# Altium integrated library Analog Devices Clock Generation and Distribution.IntLib: 120 symbols (part 4 of 18)
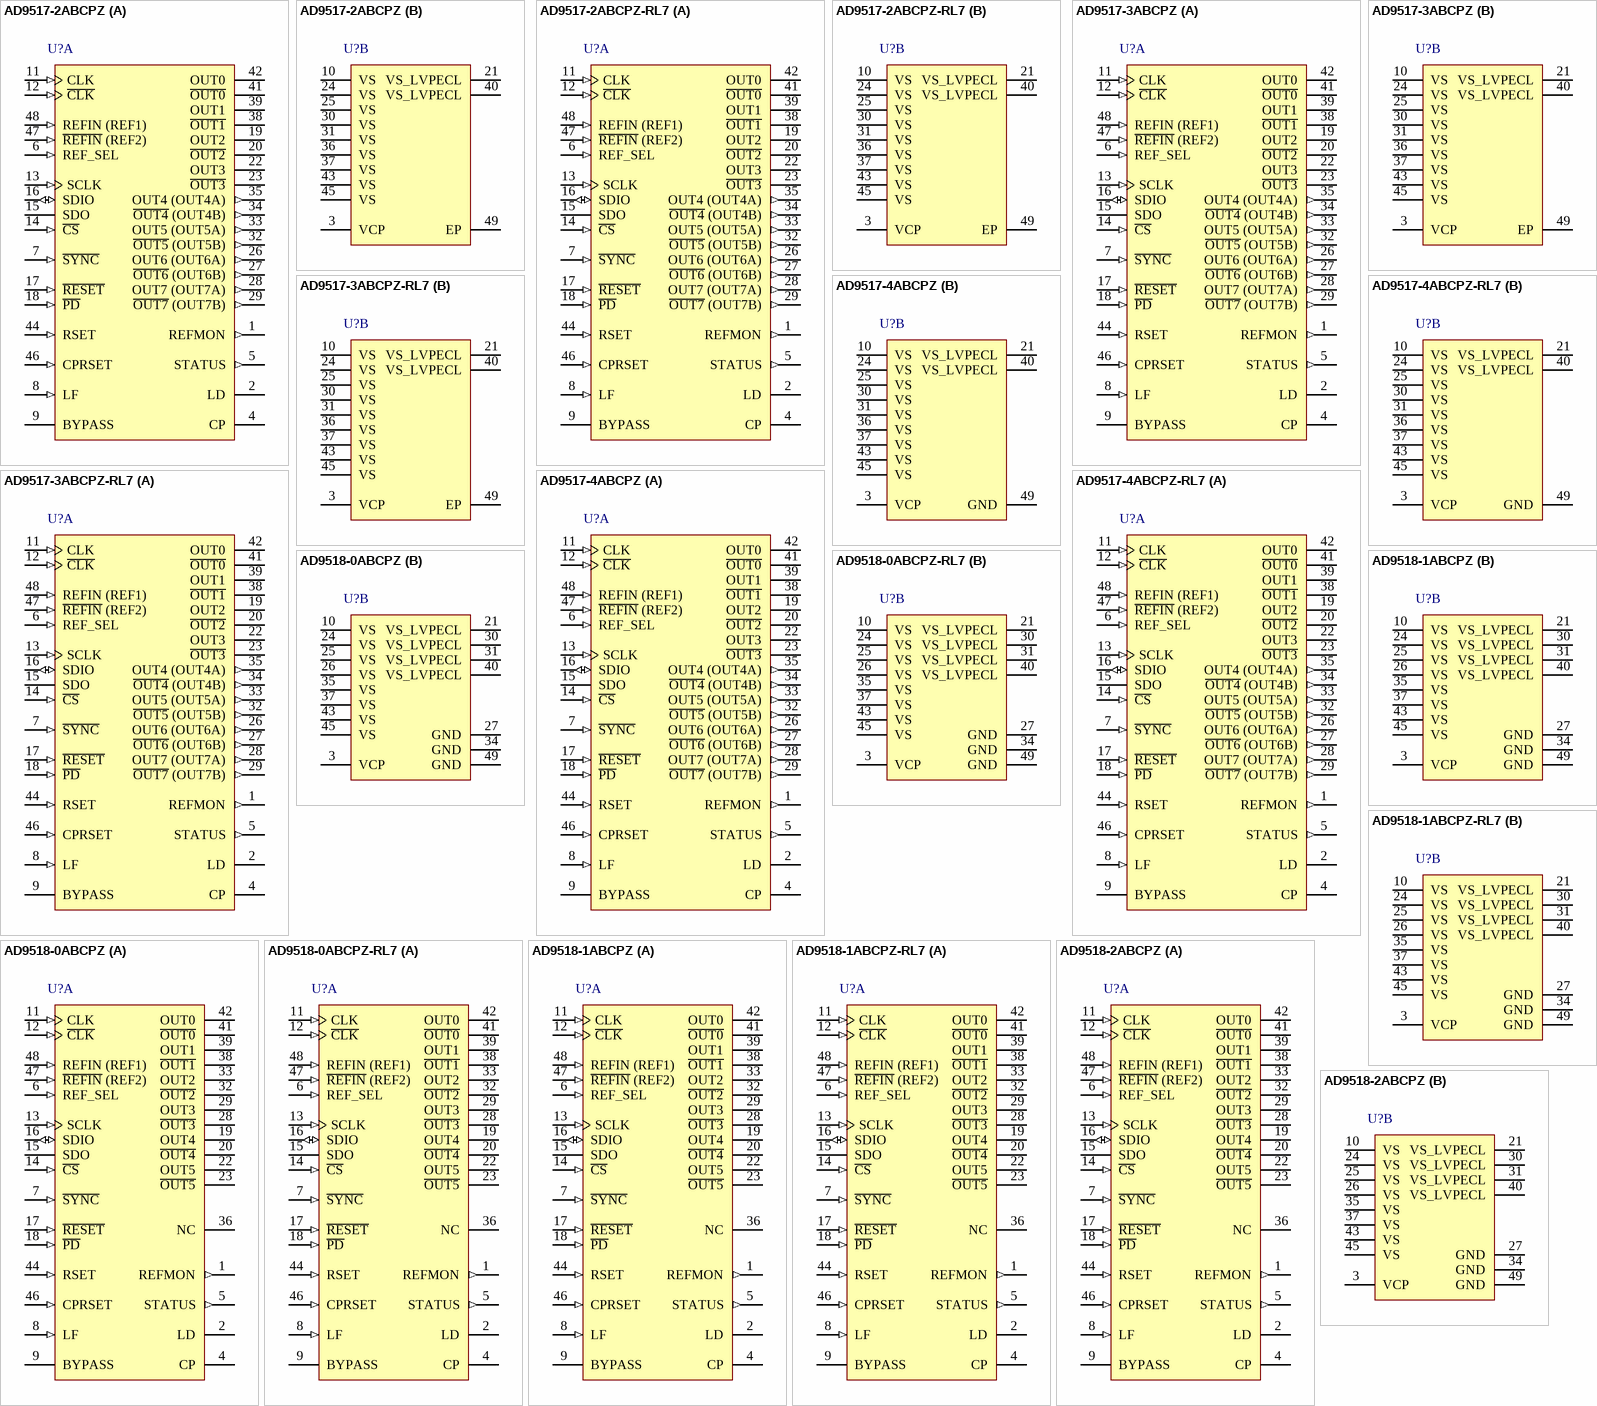
[diagram p15: symbols AD9517-2ABCPZ to AD9518-2ABCPZ]

## AD9517-3ABCPZ
designator U?
12 Outputs Clock Generator with Integrated 2.0 GHz VCO, 3.3 V Supply, Industrial, 48-pin QFN (CP-48-8), Tray; Manufacturer: Analog Devices; PartNumber: AD9517-3ABCPZ; # of Inputs: 2; # of Outputs: 12; Supply Voltage (V): 3.3; I/O Interface: Serial; Max f-out: 2.25 GHz; On-Chip VCO or DCO: Yes; Output Logic: CMOS, LVDS, LVPECL; DatasheetVersion: Rev. D; PackageVersion: 06-06-2012-C, 06/2012; PackageReference: CP-48-8; PackageDescription: 48-Pin Lead Frame Chip Scale Package, Body 7 x 7 mm, Pitch 0.5 mm; Supplier 1: Digi-Key; Supplier Part Number 1: AD9517-3ABCPZ-ND; Supplier 2: Farnell; Supplier Part Number 2: 2321454; Supplier 3: Newark; Supplier Part Number 3: 51R0766; Supplier 4: Mouser; Supplier Part Number 4: 584-AD9517-3ABCPZ; Packing: Tray; Mounting Technology: Surface Mount; Code_JEDEC: MO-220-VKKD-2; ComponentLink1Description: Manufacturer URL; ComponentLink1URL: http://www.analog.com/en/index.html; ComponentLink2Description: Datasheet; ComponentLink2URL: http://www.analog.com/static/imported-files/data_sheets/AD9517-3.pdf; ComponentLink3Description: Package Specification; ComponentLink3URL: http://www.analog.com/static/imported-files/packages/PKG_PDF/LFCSP(CP)/CP_48_8.pdf; ComponentLink4Description: Product URL; ComponentLink4URL: http://www.analog.com/en/clock-and-timing/clock-generation-and-distribution/ad9517-3/products/product.html
footprint ADI-CP-48-8_N (QFN, 48-Leads, Body 7x7mm, Pitch 0.5mm, Thermal Pad 5.5x5.5mm, IPC Medium Density)
footprint ADI-CP-48-8_L (QFN, 48-Leads, Body 7x7mm, Pitch 0.5mm, Thermal Pad 5.5x5.5mm, IPC High Density)
footprint ADI-CP-48-8_M (QFN, 48-Leads, Body 7x7mm, Pitch 0.5mm, Thermal Pad 5.5x5.5mm, IPC Low Density)
part A pins: 1 REFMON (out) "Reference Monitor (Output). This pin has multiple selectable outputs; see Table 54, Register 0x01B.", 2 LD (hiz) "Lock Detect (Output). This pin has multiple selectable outputs; see Table 54, Register 0x01A.", 4 CP (hiz) "Charge Pump (Output). Connects to external loop filter.", 5 STATUS (out) "Status (Output). This pin has multiple selectable outputs; see Table 54, Register 0x017.", 6 REF_SEL (in) "Reference Select. Selects REF1 (low) or REF2 (high). This pin has an internal 30 k ohm pull-down resistor.", 7 ~{SYNC} (in) "Manual Synchronizations and Manual Holdover. This pin initiates a manual synchronization and is used for manual holdover. Active low. This pin has an internal 30 k ohm pull-up resistor.", 8 LF (in) "Loop Filter (Input). Connects to VCO control voltage node internally. This pin has 31 pF of internal capacitance to ground, which may influence the loop filter design for large loop bandwidths.", 9 BYPASS "This pin is for bypassing the LDO to ground with a capacitor.", 11 CLK (in) "Along with C\L\K\, this is the self-biased differential input for the clock distribution section. This pin can be left floating if internal VCO is used.", 12 ~{CLK} (in) "Along with CLK, this is the self-biased differential input for the clock distribution section. This pin can be left floating if internal VCO is used.", 13 SCLK (in) "Serial Control Port Data Clock Signal.", 14 ~{CS} (in) "Serial Control Port Chip Select; Active Low. This pin has an internal 30 k ohm pull-up resistor.", 15 SDO (hiz) "Serial Control Port. Unidirectional serial data output.", 16 SDIO (io) "Serial Control Port. Bidirectional serial data input/output and unidirectional serial data input.", 17 ~{RESET} (in) "Chip Reset, Active Low. This pin has an internal 30 k ohm pull-up resistor.", 18 ~{PD} (in) "Chip Power Down, Active Low. This pin has an internal 30 k ohm pull-up resistor.", 19 OUT2 (hiz) "LVPECL Output; One Side of a Differential LVPECL Output.", 20 ~{OUT2} (hiz) "LVPECL Output; One Side of a Differential LVPECL Output.", 22 OUT3 (hiz) "LVPECL Output; One Side of a Differential LVPECL Output.", 23 ~{OUT3} (hiz) "LVPECL Output; One Side of a Differential LVPECL Output.", 26 OUT6 (OUT6A) (out) "LVDS/CMOS Output; One Side of a Differential LVDS Output or a Single-Ended CMOS Output.", 27 ~{OUT6} (OUT6B) (out) "LVDS/CMOS Output; One Side of a Differential LVDS Output or a Single-Ended CMOS Output.", 28 OUT7 (OUT7A) (out) "LVDS/CMOS Output; One Side of a Differential LVDS Output or a Single-Ended CMOS Output.", 29 ~{OUT7} (OUT7B) (out) "LVDS/CMOS Output; One Side of a Differential LVDS Output or a Single-Ended CMOS Output.", 32 ~{OUT5} (OUT5B) (out) "LVDS/CMOS Output; One Side of a Differential LVDS Output or a Single-Ended CMOS Output.", 33 OUT5 (OUT5A) (out) "LVDS/CMOS Output; One Side of a Differential LVDS Output or a Single-Ended CMOS Output.", 34 ~{OUT4} (OUT4B) (out) "LVDS/CMOS Output; One Side of a Differential LVDS Output or a Single-Ended CMOS Output.", 35 OUT4 (OUT4A) (out) "LVDS/CMOS Output; One Side of a Differential LVDS Output or a Single-Ended CMOS Output.", 38 ~{OUT1} (hiz) "LVPECL Output; One Side of a Differential LVPECL Output.", 39 OUT1 (hiz) "LVPECL Output; One Side of a Differential LVPECL Output.", 41 ~{OUT0} (hiz) "LVPECL Output; One Side of a Differential LVPECL Output.", 42 OUT0 (hiz) "LVPECL Output; One Side of a Differential LVPECL Output.", 44 RSET (in) "Resistor connected here sets internal bias currents. Nominal value = 4.12 k ohm.", 46 CPRSET (in) "Resistor connected here sets CP current range. Nominal value = 5.1 k ohm.", 47 ~{REFIN} (REF2) (in) "Along with REFIN, this is the self-biased differential input for the PLL reference. Alternatively, this pin is a single-ended input for REF2.", 48 REFIN (REF1) (in) "Along with R\E\F\I\N\, this is the self-biased differential input for the PLL reference. Alternatively, this pin is a single-ended input for REF1."
part B pins: 3 VCP (power) "Power Supply for Charge Pump (CP). VS =< VCP =< 5.0 V. This pin is usually 3.3 V for most applications; but if a 5 V external VCXO is used, this pin should be 5 V.", 10 VS (power) "3.3 V Power Pins.", 21 VS_LVPECL (power) "Extended Voltage 2.5 V to 3.3 V LVPECL Power Pins.", 24 VS (power) "3.3 V Power Pins.", 25 VS (power) "3.3 V Power Pins.", 30 VS (power) "3.3 V Power Pins.", 31 VS (power) "3.3 V Power Pins.", 36 VS (power) "3.3 V Power Pins.", 37 VS (power) "3.3 V Power Pins.", 40 VS_LVPECL (power) "Extended Voltage 2.5 V to 3.3 V LVPECL Power Pins.", 43 VS (power) "3.3 V Power Pins.", 45 VS (power) "3.3 V Power Pins.", 49 EP (power) "Ground. The external paddle on the bottom of the package must be connected to ground for proper operation."

## AD9517-3ABCPZ-RL7
designator U?
12 Outputs Clock Generator with Integrated 2.0 GHz VCO, 3.3 V Supply, Industrial, 48-pin QFN (CP-48-8), Reel; Manufacturer: Analog Devices; PartNumber: AD9517-3ABCPZ-RL7; # of Inputs: 2; # of Outputs: 12; Supply Voltage (V): 3.3; I/O Interface: Serial; Max f-out: 2.25 GHz; On-Chip VCO or DCO: Yes; Output Logic: CMOS, LVDS, LVPECL; DatasheetVersion: Rev. D; PackageVersion: 06-06-2012-C, 06/2012; PackageReference: CP-48-8; PackageDescription: 48-Pin Lead Frame Chip Scale Package, Body 7 x 7 mm, Pitch 0.5 mm; Supplier 1: Digi-Key; Supplier Part Number 1: AD9517-3ABCPZ-RL7-ND; Supplier 2: Mouser; Supplier Part Number 2: 584-AD9517-3ABCPZ-R7; Packing: Reel; Mounting Technology: Surface Mount; Code_JEDEC: MO-220-VKKD-2; ComponentLink1Description: Manufacturer URL; ComponentLink1URL: http://www.analog.com/en/index.html; ComponentLink2Description: Datasheet; ComponentLink2URL: http://www.analog.com/static/imported-files/data_sheets/AD9517-3.pdf; ComponentLink3Description: Package Specification; ComponentLink3URL: http://www.analog.com/static/imported-files/packages/PKG_PDF/LFCSP(CP)/CP_48_8.pdf; ComponentLink4Description: Product URL; ComponentLink4URL: http://www.analog.com/en/clock-and-timing/clock-generation-and-distribution/ad9517-3/products/product.html
footprint ADI-CP-48-8_N (QFN, 48-Leads, Body 7x7mm, Pitch 0.5mm, Thermal Pad 5.5x5.5mm, IPC Medium Density)
footprint ADI-CP-48-8_L (QFN, 48-Leads, Body 7x7mm, Pitch 0.5mm, Thermal Pad 5.5x5.5mm, IPC High Density)
footprint ADI-CP-48-8_M (QFN, 48-Leads, Body 7x7mm, Pitch 0.5mm, Thermal Pad 5.5x5.5mm, IPC Low Density)
part A pins: 1 REFMON (out) "Reference Monitor (Output). This pin has multiple selectable outputs; see Table 54, Register 0x01B.", 2 LD (hiz) "Lock Detect (Output). This pin has multiple selectable outputs; see Table 54, Register 0x01A.", 4 CP (hiz) "Charge Pump (Output). Connects to external loop filter.", 5 STATUS (out) "Status (Output). This pin has multiple selectable outputs; see Table 54, Register 0x017.", 6 REF_SEL (in) "Reference Select. Selects REF1 (low) or REF2 (high). This pin has an internal 30 k ohm pull-down resistor.", 7 ~{SYNC} (in) "Manual Synchronizations and Manual Holdover. This pin initiates a manual synchronization and is used for manual holdover. Active low. This pin has an internal 30 k ohm pull-up resistor.", 8 LF (in) "Loop Filter (Input). Connects to VCO control voltage node internally. This pin has 31 pF of internal capacitance to ground, which may influence the loop filter design for large loop bandwidths.", 9 BYPASS "This pin is for bypassing the LDO to ground with a capacitor.", 11 CLK (in) "Along with C\L\K\, this is the self-biased differential input for the clock distribution section. This pin can be left floating if internal VCO is used.", 12 ~{CLK} (in) "Along with CLK, this is the self-biased differential input for the clock distribution section. This pin can be left floating if internal VCO is used.", 13 SCLK (in) "Serial Control Port Data Clock Signal.", 14 ~{CS} (in) "Serial Control Port Chip Select; Active Low. This pin has an internal 30 k ohm pull-up resistor.", 15 SDO (hiz) "Serial Control Port. Unidirectional serial data output.", 16 SDIO (io) "Serial Control Port. Bidirectional serial data input/output and unidirectional serial data input.", 17 ~{RESET} (in) "Chip Reset, Active Low. This pin has an internal 30 k ohm pull-up resistor.", 18 ~{PD} (in) "Chip Power Down, Active Low. This pin has an internal 30 k ohm pull-up resistor.", 19 OUT2 (hiz) "LVPECL Output; One Side of a Differential LVPECL Output.", 20 ~{OUT2} (hiz) "LVPECL Output; One Side of a Differential LVPECL Output.", 22 OUT3 (hiz) "LVPECL Output; One Side of a Differential LVPECL Output.", 23 ~{OUT3} (hiz) "LVPECL Output; One Side of a Differential LVPECL Output.", 26 OUT6 (OUT6A) (out) "LVDS/CMOS Output; One Side of a Differential LVDS Output or a Single-Ended CMOS Output.", 27 ~{OUT6} (OUT6B) (out) "LVDS/CMOS Output; One Side of a Differential LVDS Output or a Single-Ended CMOS Output.", 28 OUT7 (OUT7A) (out) "LVDS/CMOS Output; One Side of a Differential LVDS Output or a Single-Ended CMOS Output.", 29 ~{OUT7} (OUT7B) (out) "LVDS/CMOS Output; One Side of a Differential LVDS Output or a Single-Ended CMOS Output.", 32 ~{OUT5} (OUT5B) (out) "LVDS/CMOS Output; One Side of a Differential LVDS Output or a Single-Ended CMOS Output.", 33 OUT5 (OUT5A) (out) "LVDS/CMOS Output; One Side of a Differential LVDS Output or a Single-Ended CMOS Output.", 34 ~{OUT4} (OUT4B) (out) "LVDS/CMOS Output; One Side of a Differential LVDS Output or a Single-Ended CMOS Output.", 35 OUT4 (OUT4A) (out) "LVDS/CMOS Output; One Side of a Differential LVDS Output or a Single-Ended CMOS Output.", 38 ~{OUT1} (hiz) "LVPECL Output; One Side of a Differential LVPECL Output.", 39 OUT1 (hiz) "LVPECL Output; One Side of a Differential LVPECL Output.", 41 ~{OUT0} (hiz) "LVPECL Output; One Side of a Differential LVPECL Output.", 42 OUT0 (hiz) "LVPECL Output; One Side of a Differential LVPECL Output.", 44 RSET (in) "Resistor connected here sets internal bias currents. Nominal value = 4.12 k ohm.", 46 CPRSET (in) "Resistor connected here sets CP current range. Nominal value = 5.1 k ohm.", 47 ~{REFIN} (REF2) (in) "Along with REFIN, this is the self-biased differential input for the PLL reference. Alternatively, this pin is a single-ended input for REF2.", 48 REFIN (REF1) (in) "Along with R\E\F\I\N\, this is the self-biased differential input for the PLL reference. Alternatively, this pin is a single-ended input for REF1."
part B pins: 3 VCP (power) "Power Supply for Charge Pump (CP). VS =< VCP =< 5.0 V. This pin is usually 3.3 V for most applications; but if a 5 V external VCXO is used, this pin should be 5 V.", 10 VS (power) "3.3 V Power Pins.", 21 VS_LVPECL (power) "Extended Voltage 2.5 V to 3.3 V LVPECL Power Pins.", 24 VS (power) "3.3 V Power Pins.", 25 VS (power) "3.3 V Power Pins.", 30 VS (power) "3.3 V Power Pins.", 31 VS (power) "3.3 V Power Pins.", 36 VS (power) "3.3 V Power Pins.", 37 VS (power) "3.3 V Power Pins.", 40 VS_LVPECL (power) "Extended Voltage 2.5 V to 3.3 V LVPECL Power Pins.", 43 VS (power) "3.3 V Power Pins.", 45 VS (power) "3.3 V Power Pins.", 49 EP (power) "Ground. The external paddle on the bottom of the package must be connected to ground for proper operation."

## AD9517-4ABCPZ
designator U?
12 Outputs Clock Generator with Integrated 1.6 GHz VCO, 3.3 V Supply, Industrial, 48-pin QFN (CP-48-8), Tray; Manufacturer: Analog Devices; PartNumber: AD9517-4ABCPZ; # of Inputs: 2; # of Outputs: 12; Supply Voltage (V): 3.3; I/O Interface: Serial; Max f-out: 1.8 GHz; On-Chip VCO or DCO: Yes; Output Logic: CMOS, LVDS, LVPECL; DatasheetVersion: Rev. D; PackageVersion: 06-06-2012-C, 06/2012; PackageReference: CP-48-8; PackageDescription: 48-Pin Lead Frame Chip Scale Package, Body 7 x 7 mm, Pitch 0.5 mm; Supplier 1: Digi-Key; Supplier Part Number 1: AD9517-4ABCPZ-ND; Supplier 2: Farnell; Supplier Part Number 2: 2321455; Supplier 3: Newark; Supplier Part Number 3: 51R0768; Supplier 4: Mouser; Supplier Part Number 4: 584-AD9517-4ABCPZ; Packing: Tray; Mounting Technology: Surface Mount; Code_JEDEC: MO-220-VKKD-2; ComponentLink1Description: Manufacturer URL; ComponentLink1URL: http://www.analog.com/en/index.html; ComponentLink2Description: Datasheet; ComponentLink2URL: http://www.analog.com/static/imported-files/data_sheets/AD9517-4.pdf; ComponentLink3Description: Package Specification; ComponentLink3URL: http://www.analog.com/static/imported-files/packages/PKG_PDF/LFCSP(CP)/CP_48_8.pdf; ComponentLink4Description: Product URL; ComponentLink4URL: http://www.analog.com/en/clock-and-timing/clock-generation-and-distribution/ad9517-4/products/product.html; ComponentLink5Description: Reference Circuit; ComponentLink5URL: http://www.analog.com/en/clock-and-timing/clock-generation-and-distribution/ad9517-4/products/product.html#product-recommendations
footprint ADI-CP-48-8_N (QFN, 48-Leads, Body 7x7mm, Pitch 0.5mm, Thermal Pad 5.5x5.5mm, IPC Medium Density)
footprint ADI-CP-48-8_L (QFN, 48-Leads, Body 7x7mm, Pitch 0.5mm, Thermal Pad 5.5x5.5mm, IPC High Density)
footprint ADI-CP-48-8_M (QFN, 48-Leads, Body 7x7mm, Pitch 0.5mm, Thermal Pad 5.5x5.5mm, IPC Low Density)
part A pins: 1 REFMON (out) "Reference Monitor (Output). This pin has multiple selectable outputs; see Table 54, Register 0x01B.", 2 LD (hiz) "Lock Detect (Output). This pin has multiple selectable outputs; see Table 54, Register 0x01A.", 4 CP (hiz) "Charge Pump (Output). Connects to external loop filter.", 5 STATUS (out) "Status (Output). This pin has multiple selectable outputs; see Table 54, Register 0x017.", 6 REF_SEL (in) "Reference Select. Selects REF1 (low) or REF2 (high). This pin has an internal 30 K ohm pull-down resistor.", 7 ~{SYNC} (in) "Manual Synchronizations and Manual Holdover. This pin initiates a manual synchronization and is also used for manual holdover. Active low. This pin has an internal 30 K ohm pull-up resistor.", 8 LF (in) "Loop Filter (Input). Connects to VCO control voltage node internally. This pin has 31 pF of internal capacitance to ground, which may influence the loop filter design for large loop bandwidths.", 9 BYPASS "This pin is for bypassing the LDO to ground with a capacitor.", 11 CLK (in) "Along with C\L\K\, this is the self-biased differential input for the clock distribution section. This pin can be left floating if internal VCO is used.", 12 ~{CLK} (in) "Along with CLK, this is the self-biased differential input for the clock distribution section. This pin can be left floating if internal VCO is used.", 13 SCLK (in) "Serial Control Port Data Clock Signal.", 14 ~{CS} (in) "Serial Control Port Chip Select; Active Low. This pin has an internal 30 K ohm pull-up resistor.", 15 SDO (hiz) "Serial Control Port. Unidirectional serial data output.", 16 SDIO (io) "Serial Control Port. Bidirectional serial data input/output and unidirectional serial data input.", 17 ~{RESET} (in) "Chip Reset, Active Low. This pin has an internal 30 K ohm pull-up resistor.", 18 ~{PD} (in) "Chip Power Down, Active Low. This pin has an internal 30 K ohm pull-up resistor.", 19 OUT2 (oe) "LVPECL Output; One Side of a Differential LVPECL Output.", 20 ~{OUT2} (oe) "LVPECL Output; One Side of a Differential LVPECL Output.", 22 OUT3 (oe) "LVPECL Output; One Side of a Differential LVPECL Output.", 23 ~{OUT3} (oe) "3.3 V Power Pins.", 26 OUT6 (OUT6A) (out) "LVDS/CMOS Output; One Side of a Differential LVDS Output or a Single-Ended CMOS Output.", 27 ~{OUT6} (OUT6B) (out) "LVDS/CMOS Output; One Side of a Differential LVDS Output or a Single-Ended CMOS Output.", 28 OUT7 (OUT7A) (out) "LVDS/CMOS Output; One Side of a Differential LVDS Output or a Single-Ended CMOS Output.", 29 ~{OUT7} (OUT7B) (out) "LVDS/CMOS Output; One Side of a Differential LVDS Output or a Single-Ended CMOS Output.", 32 ~{OUT5} (OUT5B) (out) "LVDS/CMOS Output; One Side of a Differential LVDS Output or a Single-Ended CMOS Output.", 33 OUT5 (OUT5A) (out) "LVDS/CMOS Output; One Side of a Differential LVDS Output or a Single-Ended CMOS Output.", 34 ~{OUT4} (OUT4B) (out) "LVDS/CMOS Output; One Side of a Differential LVDS Output or a Single-Ended CMOS Output.", 35 OUT4 (OUT4A) (out) "LVDS/CMOS Output; One Side of a Differential LVDS Output or a Single-Ended CMOS Output.", 38 ~{OUT1} (oe) "LVPECL Output; One Side of a Differential LVPECL Output.", 39 OUT1 (oe) "LVPECL Output; One Side of a Differential LVPECL Output.", 41 ~{OUT0} (oe) "LVPECL Output; One Side of a Differential LVPECL Output.", 42 OUT0 (oe) "LVPECL Output; One Side of a Differential LVPECL Output.", 44 RSET (in) "Resistor connected here sets internal bias currents. Nominal value = 4.12 K ohm.", 46 CPRSET (in) "Resistor connected here sets CP current range. Nominal value = 5.1 K ohm.", 47 ~{REFIN} (REF2) (in) "Along with REFIN, this is the self-biased differential input for the PLL reference. Alternatively, this pin is a single-ended input for REF2.", 48 REFIN (REF1) (in) "Along with R\E\F\I\N\, this is the self-biased differential input for the PLL reference. Alternatively, this pin is a single-ended input for REF1."
part B pins: 3 VCP (power) "Power Supply for Charge Pump (CP); VS =< VCP =< 5.0 V. This pin is usually 3.3 V for most applications; but if a 5 V external VCXO is used, this pin should be 5 V.", 10 VS (power) "3.3 V Power Pins.", 21 VS_LVPECL (power) "Extended Voltage 2.5 V to 3.3 V LVPECL Power Pins.", 24 VS (power) "3.3 V Power Pins.", 25 VS (power) "3.3 V Power Pins.", 30 VS (power) "3.3 V Power Pins.", 31 VS (power) "3.3 V Power Pins.", 36 VS (power) "3.3 V Power Pins.", 37 VS (power) "3.3 V Power Pins.", 40 VS_LVPECL (power) "Extended Voltage 2.5 V to 3.3 V LVPECL Power Pins.", 43 VS (power) "3.3 V Power Pins.", 45 VS (power) "3.3 V Power Pins.", 49 GND (power) "Ground. The external paddle on the bottom of the package must be connected to ground for proper operation."

## AD9517-4ABCPZ-RL7
designator U?
12 Outputs Clock Generator with Integrated 1.6 GHz VCO, 3.3 V Supply, Industrial, 48-pin QFN (CP-48-8), Reel; Manufacturer: Analog Devices; PartNumber: AD9517-4ABCPZ-RL7; # of Inputs: 2; # of Outputs: 12; Supply Voltage (V): 3.3; I/O Interface: Serial; Max f-out: 1.8 GHz; On-Chip VCO or DCO: Yes; Output Logic: CMOS, LVDS, LVPECL; DatasheetVersion: Rev. D; PackageVersion: 06-06-2012-C, 06/2012; PackageReference: CP-48-8; PackageDescription: 48-Pin Lead Frame Chip Scale Package, Body 7 x 7 mm, Pitch 0.5 mm; Supplier 1: Digi-Key; Supplier Part Number 1: AD9517-4ABCPZ-RL7-ND; Supplier 2: Newark; Supplier Part Number 2: 51R0769; Supplier 3: Mouser; Supplier Part Number 3: 584-AD9517-4ABCPZ-R7; Packing: Reel; Mounting Technology: Surface Mount; Code_JEDEC: MO-220-VKKD-2; ComponentLink1Description: Manufacturer URL; ComponentLink1URL: http://www.analog.com/en/index.html; ComponentLink2Description: Datasheet; ComponentLink2URL: http://www.analog.com/static/imported-files/data_sheets/AD9517-4.pdf; ComponentLink3Description: Package Specification; ComponentLink3URL: http://www.analog.com/static/imported-files/packages/PKG_PDF/LFCSP(CP)/CP_48_8.pdf; ComponentLink4Description: Product URL; ComponentLink4URL: http://www.analog.com/en/clock-and-timing/clock-generation-and-distribution/ad9517-4/products/product.html; ComponentLink5Description: Reference Circuit; ComponentLink5URL: http://www.analog.com/en/clock-and-timing/clock-generation-and-distribution/ad9517-4/products/product.html#product-recommendations
footprint ADI-CP-48-8_N (QFN, 48-Leads, Body 7x7mm, Pitch 0.5mm, Thermal Pad 5.5x5.5mm, IPC Medium Density)
footprint ADI-CP-48-8_L (QFN, 48-Leads, Body 7x7mm, Pitch 0.5mm, Thermal Pad 5.5x5.5mm, IPC High Density)
footprint ADI-CP-48-8_M (QFN, 48-Leads, Body 7x7mm, Pitch 0.5mm, Thermal Pad 5.5x5.5mm, IPC Low Density)
part A pins: 1 REFMON (out) "Reference Monitor (Output). This pin has multiple selectable outputs; see Table 54, Register 0x01B.", 2 LD (hiz) "Lock Detect (Output). This pin has multiple selectable outputs; see Table 54, Register 0x01A.", 4 CP (hiz) "Charge Pump (Output). Connects to external loop filter.", 5 STATUS (out) "Status (Output). This pin has multiple selectable outputs; see Table 54, Register 0x017.", 6 REF_SEL (in) "Reference Select. Selects REF1 (low) or REF2 (high). This pin has an internal 30 K ohm pull-down resistor.", 7 ~{SYNC} (in) "Manual Synchronizations and Manual Holdover. This pin initiates a manual synchronization and is also used for manual holdover. Active low. This pin has an internal 30 K ohm pull-up resistor.", 8 LF (in) "Loop Filter (Input). Connects to VCO control voltage node internally. This pin has 31 pF of internal capacitance to ground, which may influence the loop filter design for large loop bandwidths.", 9 BYPASS "This pin is for bypassing the LDO to ground with a capacitor.", 11 CLK (in) "Along with C\L\K\, this is the self-biased differential input for the clock distribution section. This pin can be left floating if internal VCO is used.", 12 ~{CLK} (in) "Along with CLK, this is the self-biased differential input for the clock distribution section. This pin can be left floating if internal VCO is used.", 13 SCLK (in) "Serial Control Port Data Clock Signal.", 14 ~{CS} (in) "Serial Control Port Chip Select; Active Low. This pin has an internal 30 K ohm pull-up resistor.", 15 SDO (hiz) "Serial Control Port. Unidirectional serial data output.", 16 SDIO (io) "Serial Control Port. Bidirectional serial data input/output and unidirectional serial data input.", 17 ~{RESET} (in) "Chip Reset, Active Low. This pin has an internal 30 K ohm pull-up resistor.", 18 ~{PD} (in) "Chip Power Down, Active Low. This pin has an internal 30 K ohm pull-up resistor.", 19 OUT2 (oe) "LVPECL Output; One Side of a Differential LVPECL Output.", 20 ~{OUT2} (oe) "LVPECL Output; One Side of a Differential LVPECL Output.", 22 OUT3 (oe) "LVPECL Output; One Side of a Differential LVPECL Output.", 23 ~{OUT3} (oe) "3.3 V Power Pins.", 26 OUT6 (OUT6A) (out) "LVDS/CMOS Output; One Side of a Differential LVDS Output or a Single-Ended CMOS Output.", 27 ~{OUT6} (OUT6B) (out) "LVDS/CMOS Output; One Side of a Differential LVDS Output or a Single-Ended CMOS Output.", 28 OUT7 (OUT7A) (out) "LVDS/CMOS Output; One Side of a Differential LVDS Output or a Single-Ended CMOS Output.", 29 ~{OUT7} (OUT7B) (out) "LVDS/CMOS Output; One Side of a Differential LVDS Output or a Single-Ended CMOS Output.", 32 ~{OUT5} (OUT5B) (out) "LVDS/CMOS Output; One Side of a Differential LVDS Output or a Single-Ended CMOS Output.", 33 OUT5 (OUT5A) (out) "LVDS/CMOS Output; One Side of a Differential LVDS Output or a Single-Ended CMOS Output.", 34 ~{OUT4} (OUT4B) (out) "LVDS/CMOS Output; One Side of a Differential LVDS Output or a Single-Ended CMOS Output.", 35 OUT4 (OUT4A) (out) "LVDS/CMOS Output; One Side of a Differential LVDS Output or a Single-Ended CMOS Output.", 38 ~{OUT1} (oe) "LVPECL Output; One Side of a Differential LVPECL Output.", 39 OUT1 (oe) "LVPECL Output; One Side of a Differential LVPECL Output.", 41 ~{OUT0} (oe) "LVPECL Output; One Side of a Differential LVPECL Output.", 42 OUT0 (oe) "LVPECL Output; One Side of a Differential LVPECL Output.", 44 RSET (in) "Resistor connected here sets internal bias currents. Nominal value = 4.12 K ohm.", 46 CPRSET (in) "Resistor connected here sets CP current range. Nominal value = 5.1 K ohm.", 47 ~{REFIN} (REF2) (in) "Along with REFIN, this is the self-biased differential input for the PLL reference. Alternatively, this pin is a single-ended input for REF2.", 48 REFIN (REF1) (in) "Along with R\E\F\I\N\, this is the self-biased differential input for the PLL reference. Alternatively, this pin is a single-ended input for REF1."
part B pins: 3 VCP (power) "Power Supply for Charge Pump (CP); VS =< VCP =< 5.0 V. This pin is usually 3.3 V for most applications; but if a 5 V external VCXO is used, this pin should be 5 V.", 10 VS (power) "3.3 V Power Pins.", 21 VS_LVPECL (power) "Extended Voltage 2.5 V to 3.3 V LVPECL Power Pins.", 24 VS (power) "3.3 V Power Pins.", 25 VS (power) "3.3 V Power Pins.", 30 VS (power) "3.3 V Power Pins.", 31 VS (power) "3.3 V Power Pins.", 36 VS (power) "3.3 V Power Pins.", 37 VS (power) "3.3 V Power Pins.", 40 VS_LVPECL (power) "Extended Voltage 2.5 V to 3.3 V LVPECL Power Pins.", 43 VS (power) "3.3 V Power Pins.", 45 VS (power) "3.3 V Power Pins.", 49 GND (power) "Ground. The external paddle on the bottom of the package must be connected to ground for proper operation."

## AD9518-0ABCPZ
designator U?
6 Outputs Clock Generator with Integrated 2.8 GHz VCO, 3.3 V Supply, Industrial, 48-pin QFN (CP-48-8), Tray; Manufacturer: Analog Devices; PartNumber: AD9518-0ABCPZ; # of Inputs: 2; # of Outputs: 6; Supply Voltage (V): 3.3; I/O Interface: Serial; Max f-out: 2.95 GHz; On-Chip VCO or DCO: Yes; Output Logic: LVPECL; DatasheetVersion: Rev. C; PackageVersion: 06-06-2012-C, 06/2012; PackageReference: CP-48-8; PackageDescription: 48-Pin Lead Frame Chip Scale Package, Body 7 x 7 mm, Pitch 0.5 mm; Supplier 1: Digi-Key; Supplier Part Number 1: AD9518-0ABCPZ-ND; Supplier 2: Mouser; Supplier Part Number 2: 584-AD9518-0ABCPZ; Packing: Tray; Mounting Technology: Surface Mount; Code_JEDEC: MO-220-VKKD-2; ComponentLink1Description: Manufacturer URL; ComponentLink1URL: http://www.analog.com/en/index.html; ComponentLink2Description: Datasheet; ComponentLink2URL: http://www.analog.com/static/imported-files/data_sheets/AD9518-0.pdf; ComponentLink3Description: Package Specification; ComponentLink3URL: http://www.analog.com/static/imported-files/packages/PKG_PDF/LFCSP(CP)/CP_48_8.pdf; ComponentLink4Description: Product URL; ComponentLink4URL: http://www.analog.com/en/clock-and-timing/clock-generation-and-distribution/ad9518-0/products/product.html
footprint ADI-CP-48-8_N (QFN, 48-Leads, Body 7x7mm, Pitch 0.5mm, Thermal Pad 5.5x5.5mm, IPC Medium Density)
footprint ADI-CP-48-8_L (QFN, 48-Leads, Body 7x7mm, Pitch 0.5mm, Thermal Pad 5.5x5.5mm, IPC High Density)
footprint ADI-CP-48-8_M (QFN, 48-Leads, Body 7x7mm, Pitch 0.5mm, Thermal Pad 5.5x5.5mm, IPC Low Density)
part A pins: 1 REFMON (out) "Reference Monitor (Output). This pin has multiple selectable outputs; see Table 44,Register 0x01B", 2 LD (hiz) "Lock Detect (Output). This pin has multiple selectable outputs; see Table 44, Register 0x01A", 4 CP (hiz) "Charge Pump (Output). Connects to external loop filter", 5 STATUS (out) "Status (Output). This pin has multiple selectable outputs; see Table 44, Register 0x017.", 6 REF_SEL (in) "Reference Select. Selects REF1 (low) or REF2 (high). This pin has an internal 30 k ohm pull-down resistor.", 7 ~{SYNC} (in) "Manual Synchronizations and Manual Holdover. This pin initiates a manual synchronization and is used for manual holdover. Active low. This pin has an internal 30 k ohm pull-up resistor.", 8 LF (in) "Loop Filter (Input). Connects to VCO control voltage node internally. This pin has 31 pF of internal capacitance to ground, which may influence the loop filter design for large loop bandwidths.", 9 BYPASS "This pin is for bypassing the LDO to ground with a capacitor", 11 CLK (in) "Along with C\L\K\, this is the self-biased differential input for the clock distribution section.This pin can be left floating if internal VCO is used", 12 ~{CLK} (in) "Along with CLK, this is the self-biased differential input for the clock distribution section.This pin can be left floating if internal VCO is used.", 13 SCLK (in) "Serial Control Port Data Clock Signal.", 14 ~{CS} (in) "Serial Control Port Chip Select, Active Low. This pin has an internal 30 k ohm pull-up resistor", 15 SDO (hiz) "Serial Control Port. Unidirectional serial data output.", 16 SDIO (io) "Serial Control Port. Bidirectional serial data input/output.", 17 ~{RESET} (in) "Chip Reset, Active Low. This pin has an internal 30 k ohm pull-up resistor.", 18 ~{PD} (in) "Chip Power Down, Active Low. This pin has an internal 30 k ohm pull-up resistor", 19 OUT4 (oe) "LVPECL Output; One Side of a Differential LVPECL Output.", 20 ~{OUT4} (oe) "LVPECL Output; One Side of a Differential LVPECL Output", 22 OUT5 (oe) "LVPECL Output; One Side of a Differential LVPECL Output.", 23 ~{OUT5} (oe) "LVPECL Output; One Side of a Differential LVPECL Output.", 28 ~{OUT3} (oe) "LVPECL Output; One Side of a Differential LVPECL Output.", 29 OUT3 (oe) "LVPECL Output; One Side of a Differential LVPECL Output.", 32 ~{OUT2} (oe) "LVPECL Output; One Side of a Differential LVPECL Output.", 33 OUT2 (oe) "LVPECL Output; One Side of a Differential LVPECL Output.", 36 NC "No Connection", 38 ~{OUT1} (oe) "LVPECL Output; One Side of a Differential LVPECL Output.", 39 OUT1 (oe) "LVPECL Output; One Side of a Differential LVPECL Output.", 41 ~{OUT0} (oe) "LVPECL Output; One Side of a Differential LVPECL Output.", 42 OUT0 (oe) "LVPECL Output; One Side of a Differential LVPECL Output.", 44 RSET (in) "Resistor connected here sets internal bias currents. Nominal value = 4.12 k ohm", 46 CPRSET (in) "Resistor connected here sets the CP current range. Nominal value = 5.1 k ohm.", 47 ~{REFIN} (REF2) (in) "Along with REFIN, this is the self-biased differential input for the PLL reference. Alternatively, this pin is a single-ended input for REF2.", 48 REFIN (REF1) (in) "Along with R\E\F\I\N\, this is the self-biased differential input for the PLL reference. Alternatively, this pin is a single-ended input for REF1."
part B pins: 3 VCP (power) "Power Supply for Charge Pump (CP). VS =< VCP =< 5.0 V. This pin is usually 3.3 V for most applications; but if a 5 V external VCXO is used, this pin should be 5 V", 10 VS (power) "3.3 V Power Pins", 21 VS_LVPECL (power) "Extended Voltage 2.5 V to 3.3 V LVPECL Power Pins.", 24 VS (power) "3.3 V Power Pins", 25 VS (power) "3.3 V Power Pins", 26 VS (power) "3.3 V Power Pins", 27 GND (power) "Ground. See the description for EPAD.", 30 VS_LVPECL (power) "Extended Voltage 2.5 V to 3.3 V LVPECL Power Pins.", 31 VS_LVPECL (power) "Extended Voltage 2.5 V to 3.3 V LVPECL Power Pins.", 34 GND (power) "Ground. See the description for EPAD.", 35 VS (power) "3.3 V Power Pins", 37 VS (power) "3.3 V Power Pins", 40 VS_LVPECL (power) "Extended Voltage 2.5 V to 3.3 V LVPECL Power Pins.", 43 VS (power) "3.3 V Power Pins", 45 VS (power) "3.3 V Power Pins", 49 GND (power) "Ground. The external paddle on the bottom of the package must be connected to ground for proper operation."

## AD9518-0ABCPZ-RL7
designator U?
6 Outputs Clock Generator with Integrated 2.8 GHz VCO, 3.3 V Supply, Industrial, 48-pin QFN (CP-48-8), Reel; Manufacturer: Analog Devices; PartNumber: AD9518-0ABCPZ-RL7; # of Inputs: 2; # of Outputs: 6; Supply Voltage (V): 3.3; I/O Interface: Serial; Max f-out: 2.95 GHz; On-Chip VCO or DCO: Yes; Output Logic: LVPECL; DatasheetVersion: Rev. C; PackageVersion: 06-06-2012-C, 06/2012; PackageReference: CP-48-8; PackageDescription: 48-Pin Lead Frame Chip Scale Package, Body 7 x 7 mm, Pitch 0.5 mm; Supplier 1: Digi-Key; Supplier Part Number 1: AD9518-0ABCPZ-RL7-ND; Supplier 2: Mouser; Supplier Part Number 2: 584-AD9518-0ABCPZ-R7; Packing: Reel; Mounting Technology: Surface Mount; Code_JEDEC: MO-220-VKKD-2; ComponentLink1Description: Manufacturer URL; ComponentLink1URL: http://www.analog.com/en/index.html; ComponentLink2Description: Datasheet; ComponentLink2URL: http://www.analog.com/static/imported-files/data_sheets/AD9518-0.pdf; ComponentLink3Description: Package Specification; ComponentLink3URL: http://www.analog.com/static/imported-files/packages/PKG_PDF/LFCSP(CP)/CP_48_8.pdf; ComponentLink4Description: Product URL; ComponentLink4URL: http://www.analog.com/en/clock-and-timing/clock-generation-and-distribution/ad9518-0/products/product.html
footprint ADI-CP-48-8_N (QFN, 48-Leads, Body 7x7mm, Pitch 0.5mm, Thermal Pad 5.5x5.5mm, IPC Medium Density)
footprint ADI-CP-48-8_L (QFN, 48-Leads, Body 7x7mm, Pitch 0.5mm, Thermal Pad 5.5x5.5mm, IPC High Density)
footprint ADI-CP-48-8_M (QFN, 48-Leads, Body 7x7mm, Pitch 0.5mm, Thermal Pad 5.5x5.5mm, IPC Low Density)
part A pins: 1 REFMON (out) "Reference Monitor (Output). This pin has multiple selectable outputs; see Table 44,Register 0x01B", 2 LD (hiz) "Lock Detect (Output). This pin has multiple selectable outputs; see Table 44, Register 0x01A", 4 CP (hiz) "Charge Pump (Output). Connects to external loop filter", 5 STATUS (out) "Status (Output). This pin has multiple selectable outputs; see Table 44, Register 0x017.", 6 REF_SEL (in) "Reference Select. Selects REF1 (low) or REF2 (high). This pin has an internal 30 k ohm pull-down resistor.", 7 ~{SYNC} (in) "Manual Synchronizations and Manual Holdover. This pin initiates a manual synchronization and is used for manual holdover. Active low. This pin has an internal 30 k ohm pull-up resistor.", 8 LF (in) "Loop Filter (Input). Connects to VCO control voltage node internally. This pin has 31 pF of internal capacitance to ground, which may influence the loop filter design for large loop bandwidths.", 9 BYPASS "This pin is for bypassing the LDO to ground with a capacitor", 11 CLK (in) "Along with C\L\K\, this is the self-biased differential input for the clock distribution section.This pin can be left floating if internal VCO is used", 12 ~{CLK} (in) "Along with CLK, this is the self-biased differential input for the clock distribution section.This pin can be left floating if internal VCO is used.", 13 SCLK (in) "Serial Control Port Data Clock Signal.", 14 ~{CS} (in) "Serial Control Port Chip Select, Active Low. This pin has an internal 30 k ohm pull-up resistor", 15 SDO (hiz) "Serial Control Port. Unidirectional serial data output.", 16 SDIO (io) "Serial Control Port. Bidirectional serial data input/output.", 17 ~{RESET} (in) "Chip Reset, Active Low. This pin has an internal 30 k ohm pull-up resistor.", 18 ~{PD} (in) "Chip Power Down, Active Low. This pin has an internal 30 k ohm pull-up resistor", 19 OUT4 (oe) "LVPECL Output; One Side of a Differential LVPECL Output.", 20 ~{OUT4} (oe) "LVPECL Output; One Side of a Differential LVPECL Output", 22 OUT5 (oe) "LVPECL Output; One Side of a Differential LVPECL Output.", 23 ~{OUT5} (oe) "LVPECL Output; One Side of a Differential LVPECL Output.", 28 ~{OUT3} (oe) "LVPECL Output; One Side of a Differential LVPECL Output.", 29 OUT3 (oe) "LVPECL Output; One Side of a Differential LVPECL Output.", 32 ~{OUT2} (oe) "LVPECL Output; One Side of a Differential LVPECL Output.", 33 OUT2 (oe) "LVPECL Output; One Side of a Differential LVPECL Output.", 36 NC "No Connection", 38 ~{OUT1} (oe) "LVPECL Output; One Side of a Differential LVPECL Output.", 39 OUT1 (oe) "LVPECL Output; One Side of a Differential LVPECL Output.", 41 ~{OUT0} (oe) "LVPECL Output; One Side of a Differential LVPECL Output.", 42 OUT0 (oe) "LVPECL Output; One Side of a Differential LVPECL Output.", 44 RSET (in) "Resistor connected here sets internal bias currents. Nominal value = 4.12 k ohm", 46 CPRSET (in) "Resistor connected here sets the CP current range. Nominal value = 5.1 k ohm.", 47 ~{REFIN} (REF2) (in) "Along with REFIN, this is the self-biased differential input for the PLL reference. Alternatively, this pin is a single-ended input for REF2.", 48 REFIN (REF1) (in) "Along with R\E\F\I\N\, this is the self-biased differential input for the PLL reference. Alternatively, this pin is a single-ended input for REF1."
part B pins: 3 VCP (power) "Power Supply for Charge Pump (CP). VS =< VCP =< 5.0 V. This pin is usually 3.3 V for most applications; but if a 5 V external VCXO is used, this pin should be 5 V", 10 VS (power) "3.3 V Power Pins", 21 VS_LVPECL (power) "Extended Voltage 2.5 V to 3.3 V LVPECL Power Pins.", 24 VS (power) "3.3 V Power Pins", 25 VS (power) "3.3 V Power Pins", 26 VS (power) "3.3 V Power Pins", 27 GND (power) "Ground. See the description for EPAD.", 30 VS_LVPECL (power) "Extended Voltage 2.5 V to 3.3 V LVPECL Power Pins.", 31 VS_LVPECL (power) "Extended Voltage 2.5 V to 3.3 V LVPECL Power Pins.", 34 GND (power) "Ground. See the description for EPAD.", 35 VS (power) "3.3 V Power Pins", 37 VS (power) "3.3 V Power Pins", 40 VS_LVPECL (power) "Extended Voltage 2.5 V to 3.3 V LVPECL Power Pins.", 43 VS (power) "3.3 V Power Pins", 45 VS (power) "3.3 V Power Pins", 49 GND (power) "Ground. The external paddle on the bottom of the package must be connected to ground for proper operation."

## AD9518-1ABCPZ
designator U?
6 Outputs Clock Generator with Integrated 2.5 GHz VCO, 3.3 V Supply, Industrial, 48-pin QFN (CP-48-8), Tray; Manufacturer: Analog Devices; PartNumber: AD9518-1ABCPZ; # of Inputs: 2; # of Outputs: 6; Supply Voltage (V): 3.3; I/O Interface: Serial; Max f-out: 2.65 GHz; On-Chip VCO or DCO: Yes; Output Logic: LVPECL; DatasheetVersion: Rev. C; PackageVersion: 06-06-2012-C, 06/2012; PackageReference: CP-48-8; PackageDescription: 48-Pin Lead Frame Chip Scale Package, Body 7 x 7 mm, Pitch 0.5 mm; Supplier 1: Digi-Key; Supplier Part Number 1: AD9518-1ABCPZ-ND; Supplier 2: Newark; Supplier Part Number 2: 51R0773; Supplier 3: Mouser; Supplier Part Number 3: 584-AD9518-1ABCPZ; Packing: Tray; Mounting Technology: Surface Mount; Code_JEDEC: MO-220-VKKD-2; ComponentLink1Description: Manufacturer URL; ComponentLink1URL: http://www.analog.com/en/index.html; ComponentLink2Description: Datasheet; ComponentLink2URL: http://www.analog.com/static/imported-files/data_sheets/AD9518_1.pdf; ComponentLink3Description: Package Specification; ComponentLink3URL: http://www.analog.com/static/imported-files/packages/PKG_PDF/LFCSP(CP)/CP_48_8.pdf; ComponentLink4Description: Product URL; ComponentLink4URL: http://www.analog.com/en/clock-and-timing/clock-generation-and-distribution/ad9518-1/products/product.html
footprint ADI-CP-48-8_N (QFN, 48-Leads, Body 7x7mm, Pitch 0.5mm, Thermal Pad 5.5x5.5mm, IPC Medium Density)
footprint ADI-CP-48-8_L (QFN, 48-Leads, Body 7x7mm, Pitch 0.5mm, Thermal Pad 5.5x5.5mm, IPC High Density)
footprint ADI-CP-48-8_M (QFN, 48-Leads, Body 7x7mm, Pitch 0.5mm, Thermal Pad 5.5x5.5mm, IPC Low Density)
part A pins: 1 REFMON (out) "Reference Monitor (Output). This pin has multiple selectable outputs; see Table 44, Register 0x01B.", 2 LD (hiz) "Lock Detect (Output). This pin has multiple selectable outputs; see Table 44, Register 0x01A.", 4 CP (hiz) "Charge Pump (Output). Connects to external loop filter.", 5 STATUS (out) "Status (Output). This pin has multiple selectable outputs; see Table 44, Register 0x017.", 6 REF_SEL (in) "Reference Select. Selects REF1 (low) or REF2 (high). This pin has an internal 30 K ohm pull-down resistor.", 7 ~{SYNC} (in) "Manual Synchronizations and Manual Holdover. This pin initiates a manual synchronization and is used for manual holdover. Active low. This pin has an internal 30 K ohm pull-up resistor.", 8 LF (in) "Loop Filter (Input). Connects to VCO control voltage node internally. This pin has 31 pF of internal capacitance to ground, which may influence the loop filter design for large loop bandwidths.", 9 BYPASS "This pin is for bypassing the LDO to ground with a capacitor", 11 CLK (in) "Along with C\L\K\, this is the self-biased differential input for the clock distribution section.This pin can be left floating if internal VCO is used", 12 ~{CLK} (in) "Along with CLK, this is the self-biased differential input for the clock distribution section.This pin can be left floating if internal VCO is used.", 13 SCLK (in) "Serial Control Port Data Clock Signal.", 14 ~{CS} (in) "Serial Control Port Chip Select, Active Low. This pin has an internal 30 k ohm pull-up resistor", 15 SDO (hiz) "Serial Control Port. Unidirectional serial data output.", 16 SDIO (io) "Serial Control Port. Bidirectional serial data input/output.", 17 ~{RESET} (in) "Chip Reset, Active Low. This pin has an internal 30 k ohm pull-up resistor.", 18 ~{PD} (in) "Chip Power Down, Active Low. This pin has an internal 30 k ohm pull-up resistor", 19 OUT4 (hiz) "LVPECL Output; One Side of a Differential LVPECL Output.", 20 ~{OUT4} (hiz) "LVPECL Output; One Side of a Differential LVPECL Output.", 22 OUT5 (hiz) "LVPECL Output; One Side of a Differential LVPECL Output.", 23 ~{OUT5} (hiz) "LVPECL Output; One Side of a Differential LVPECL Output.", 28 ~{OUT3} (hiz) "LVPECL Output; One Side of a Differential LVPECL Output.", 29 OUT3 (hiz) "LVPECL Output; One Side of a Differential LVPECL Output.", 32 ~{OUT2} (hiz) "LVPECL Output; One Side of a Differential LVPECL Output.", 33 OUT2 (hiz) "LVPECL Output; One Side of a Differential LVPECL Output.", 36 NC "No Connection", 38 ~{OUT1} (hiz) "LVPECL Output; One Side of a Differential LVPECL Output.", 39 OUT1 (hiz) "LVPECL Output; One Side of a Differential LVPECL Output.", 41 ~{OUT0} (hiz) "LVPECL Output; One Side of a Differential LVPECL Output.", 42 OUT0 (hiz) "LVPECL Output; One Side of a Differential LVPECL Output.", 44 RSET (in) "Resistor connected here sets internal bias currents. Nominal value = 4.12 k ohm", 46 CPRSET (in) "Resistor connected here sets the CP current range. Nominal value = 5.1 k ohm.", 47 ~{REFIN} (REF2) (in) "Along with REFIN, this is the self-biased differential input for the PLL reference. Alternatively, this pin is a single-ended input for REF2.", 48 REFIN (REF1) (in) "Along with R\E\F\I\N\, this is the self-biased differential input for the PLL reference. Alternatively, this pin is a single-ended input for REF1."
part B pins: 3 VCP (power) "Power Supply for Charge Pump (CP). VS =< VCP =< 5.0 V. This pin is usually 3.3 V for most applications; but if a 5 V external VCXO is used, this pin should be 5 V.", 10 VS (power) "3.3 V Power Pins", 21 VS_LVPECL (power) "Extended Voltage 2.5 V to 3.3 V LVPECL Power Pins.", 24 VS (power) "3.3 V Power Pins", 25 VS (power) "3.3 V Power Pins", 26 VS (power) "3.3 V Power Pins", 27 GND (power) "Ground. See the description for EPAD.", 30 VS_LVPECL (power) "Extended Voltage 2.5 V to 3.3 V LVPECL Power Pins.", 31 VS_LVPECL (power) "Extended Voltage 2.5 V to 3.3 V LVPECL Power Pins.", 34 GND (power) "Ground. See the description for EPAD.", 35 VS (power) "3.3 V Power Pins", 37 VS (power) "3.3 V Power Pins", 40 VS_LVPECL (power) "Extended Voltage 2.5 V to 3.3 V LVPECL Power Pins.", 43 VS (power) "3.3 V Power Pins", 45 VS (power) "3.3 V Power Pins", 49 GND (power) "Ground. The external paddle on the bottom of the package must be connected to ground for proper operation."

## AD9518-1ABCPZ-RL7
designator U?
6 Outputs Clock Generator with Integrated 2.5 GHz VCO, 3.3 V Supply, Industrial, 48-pin QFN (CP-48-8), Reel; Manufacturer: Analog Devices; PartNumber: AD9518-1ABCPZ-RL7; # of Inputs: 2; # of Outputs: 6; Supply Voltage (V): 3.3; I/O Interface: Serial; Max f-out: 2.65 GHz; On-Chip VCO or DCO: Yes; Output Logic: LVPECL; DatasheetVersion: Rev. C; PackageVersion: 06-06-2012-C, 06/2012; PackageReference: CP-48-8; PackageDescription: 48-Pin Lead Frame Chip Scale Package, Body 7 x 7 mm, Pitch 0.5 mm; Supplier 1: Digi-Key; Supplier Part Number 1: AD9518-1ABCPZ-RL7-ND; Supplier 2: Mouser; Supplier Part Number 2: 584-AD9518-1ABCPZ-R7; Packing: Reel; Mounting Technology: Surface Mount; Code_JEDEC: MO-220-VKKD-2; ComponentLink1Description: Manufacturer URL; ComponentLink1URL: http://www.analog.com/en/index.html; ComponentLink2Description: Datasheet; ComponentLink2URL: http://www.analog.com/static/imported-files/data_sheets/AD9518_1.pdf; ComponentLink3Description: Package Specification; ComponentLink3URL: http://www.analog.com/static/imported-files/packages/PKG_PDF/LFCSP(CP)/CP_48_8.pdf; ComponentLink4Description: Product URL; ComponentLink4URL: http://www.analog.com/en/clock-and-timing/clock-generation-and-distribution/ad9518-1/products/product.html
footprint ADI-CP-48-8_N (QFN, 48-Leads, Body 7x7mm, Pitch 0.5mm, Thermal Pad 5.5x5.5mm, IPC Medium Density)
footprint ADI-CP-48-8_L (QFN, 48-Leads, Body 7x7mm, Pitch 0.5mm, Thermal Pad 5.5x5.5mm, IPC High Density)
footprint ADI-CP-48-8_M (QFN, 48-Leads, Body 7x7mm, Pitch 0.5mm, Thermal Pad 5.5x5.5mm, IPC Low Density)
part A pins: 1 REFMON (out) "Reference Monitor (Output). This pin has multiple selectable outputs; see Table 44, Register 0x01B.", 2 LD (hiz) "Lock Detect (Output). This pin has multiple selectable outputs; see Table 44, Register 0x01A.", 4 CP (hiz) "Charge Pump (Output). Connects to external loop filter.", 5 STATUS (out) "Status (Output). This pin has multiple selectable outputs; see Table 44, Register 0x017.", 6 REF_SEL (in) "Reference Select. Selects REF1 (low) or REF2 (high). This pin has an internal 30 K ohm pull-down resistor.", 7 ~{SYNC} (in) "Manual Synchronizations and Manual Holdover. This pin initiates a manual synchronization and is used for manual holdover. Active low. This pin has an internal 30 K ohm pull-up resistor.", 8 LF (in) "Loop Filter (Input). Connects to VCO control voltage node internally. This pin has 31 pF of internal capacitance to ground, which may influence the loop filter design for large loop bandwidths.", 9 BYPASS "This pin is for bypassing the LDO to ground with a capacitor", 11 CLK (in) "Along with C\L\K\, this is the self-biased differential input for the clock distribution section.This pin can be left floating if internal VCO is used", 12 ~{CLK} (in) "Along with CLK, this is the self-biased differential input for the clock distribution section.This pin can be left floating if internal VCO is used.", 13 SCLK (in) "Serial Control Port Data Clock Signal.", 14 ~{CS} (in) "Serial Control Port Chip Select, Active Low. This pin has an internal 30 k ohm pull-up resistor", 15 SDO (hiz) "Serial Control Port. Unidirectional serial data output.", 16 SDIO (io) "Serial Control Port. Bidirectional serial data input/output.", 17 ~{RESET} (in) "Chip Reset, Active Low. This pin has an internal 30 k ohm pull-up resistor.", 18 ~{PD} (in) "Chip Power Down, Active Low. This pin has an internal 30 k ohm pull-up resistor", 19 OUT4 (hiz) "LVPECL Output; One Side of a Differential LVPECL Output.", 20 ~{OUT4} (hiz) "LVPECL Output; One Side of a Differential LVPECL Output.", 22 OUT5 (hiz) "LVPECL Output; One Side of a Differential LVPECL Output.", 23 ~{OUT5} (hiz) "LVPECL Output; One Side of a Differential LVPECL Output.", 28 ~{OUT3} (hiz) "LVPECL Output; One Side of a Differential LVPECL Output.", 29 OUT3 (hiz) "LVPECL Output; One Side of a Differential LVPECL Output.", 32 ~{OUT2} (hiz) "LVPECL Output; One Side of a Differential LVPECL Output.", 33 OUT2 (hiz) "LVPECL Output; One Side of a Differential LVPECL Output.", 36 NC "No Connection", 38 ~{OUT1} (hiz) "LVPECL Output; One Side of a Differential LVPECL Output.", 39 OUT1 (hiz) "LVPECL Output; One Side of a Differential LVPECL Output.", 41 ~{OUT0} (hiz) "LVPECL Output; One Side of a Differential LVPECL Output.", 42 OUT0 (hiz) "LVPECL Output; One Side of a Differential LVPECL Output.", 44 RSET (in) "Resistor connected here sets internal bias currents. Nominal value = 4.12 k ohm", 46 CPRSET (in) "Resistor connected here sets the CP current range. Nominal value = 5.1 k ohm.", 47 ~{REFIN} (REF2) (in) "Along with REFIN, this is the self-biased differential input for the PLL reference. Alternatively, this pin is a single-ended input for REF2.", 48 REFIN (REF1) (in) "Along with R\E\F\I\N\, this is the self-biased differential input for the PLL reference. Alternatively, this pin is a single-ended input for REF1."
part B pins: 3 VCP (power) "Power Supply for Charge Pump (CP). VS =< VCP =< 5.0 V. This pin is usually 3.3 V for most applications; but if a 5 V external VCXO is used, this pin should be 5 V.", 10 VS (power) "3.3 V Power Pins", 21 VS_LVPECL (power) "Extended Voltage 2.5 V to 3.3 V LVPECL Power Pins.", 24 VS (power) "3.3 V Power Pins", 25 VS (power) "3.3 V Power Pins", 26 VS (power) "3.3 V Power Pins", 27 GND (power) "Ground. See the description for EPAD.", 30 VS_LVPECL (power) "Extended Voltage 2.5 V to 3.3 V LVPECL Power Pins.", 31 VS_LVPECL (power) "Extended Voltage 2.5 V to 3.3 V LVPECL Power Pins.", 34 GND (power) "Ground. See the description for EPAD.", 35 VS (power) "3.3 V Power Pins", 37 VS (power) "3.3 V Power Pins", 40 VS_LVPECL (power) "Extended Voltage 2.5 V to 3.3 V LVPECL Power Pins.", 43 VS (power) "3.3 V Power Pins", 45 VS (power) "3.3 V Power Pins", 49 GND (power) "Ground. The external paddle on the bottom of the package must be connected to ground for proper operation."